# Altium integrated library NSC LDO.IntLib: 2590 symbols (part 33 of 64)
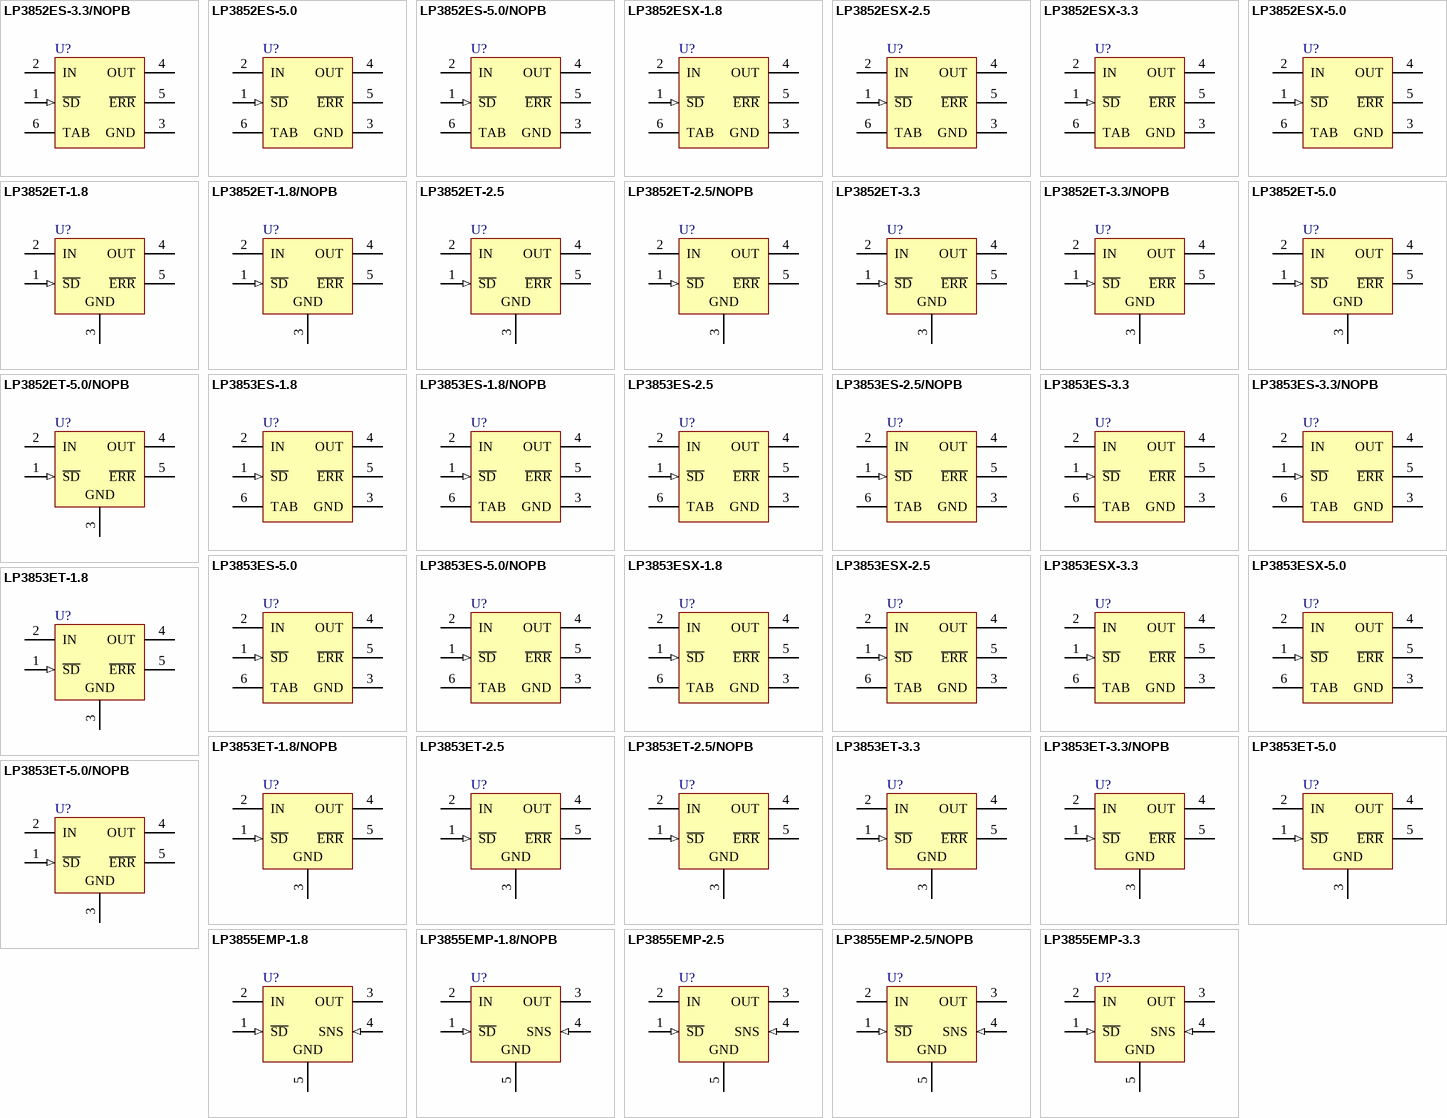
[diagram p97: symbols LP3852ES-3.3/NOPB to LP3855EMP-3.3]

## LP3853ES-2.5/NOPB
designator U?
3A Fast Ultra Low Dropout Linear Regulator, 5-pin TO-263, Pb-Free; PartNumber: LP3853ES-2.5/NOPB; Manufacturer: National Semiconductor; PackageTopMarking: NSUZXYTTE#*LP3853ES*-2.5; PowerWise: N; CompType: LDO IC; Published: 1-Mar-2010; DatasheetVersion: Sep-2006; PackageVersion: revD, Apr-2005; PackageReference: TS5B; Publisher: Altium Limited; PackageDescription: TO-263, Molded, .400 x .390 x .180in, 5 Lead, .067in Pitch, Surface Mount; Supplier 1: Digi-Key; Supplier Part Number 1: LP3853ES-2.5-ND; RoHS: Y; PinCount: 5; Code_JEDEC: MO-169-AB; ComponentLink1Description: LP3853 Datasheet; ComponentLink1URL: http://www.national.com/ds/LP/LP3853.pdf; ComponentLink2Description: LP3853 Web Page; ComponentLink2URL: http://www.national.com/pf/LP/LP3853.html; ComponentLink3Description: TS5B Package Page; ComponentLink3URL: http://www.national.com/packaging/folders/ts5b.html
footprint TS5B_N (D2-PAK, 6-Leads, Body 8.6x10.2mm, Pitch 1.7mm, Lead Span 14.1mm, IPC Medium Density)
footprint TS5B_L (D2-PAK, 6-Leads, Body 8.6x10.2mm, Pitch 1.7mm, Lead Span 14.1mm, IPC High Density)
footprint TS5B_M (D2-PAK, 6-Leads, Body 8.6x10.2mm, Pitch 1.7mm, Lead Span 14.1mm, IPC Low Density)
pins: 1 ~{SD} (in), 2 IN (power), 3 GND (power), 4 OUT (power), 5 ~{ERR} (oc), 6 TAB (power)

## LP3853ES-3.3
designator U?
3A Fast Ultra Low Dropout Linear Regulator, 5-pin TO-263; PartNumber: LP3853ES-3.3; Manufacturer: National Semiconductor; PackageTopMarking: NSUZXYTTE#*LP3853ES*-3.3; PowerWise: N; CompType: LDO IC; Published: 4-Dec-2008; DatasheetVersion: Sep-2006; PackageVersion: revD, Apr-2005; PackageReference: TS5B; Publisher: Altium Limited; PackageDescription: TO-263, Molded, .400 x .390 x .180in, 5 Lead, .067in Pitch, Surface Mount; Supplier 1: Farnell; Supplier Part Number 1: 8187975; RoHS: N; PinCount: 5; Code_JEDEC: MO-169-AB; ComponentLink1Description: LP3853 Datasheet; ComponentLink1URL: http://www.national.com/ds/LP/LP3853.pdf; ComponentLink2Description: LP3853 Web Page; ComponentLink2URL: http://www.national.com/pf/LP/LP3853.html; ComponentLink3Description: TS5B Package Page; ComponentLink3URL: http://www.national.com/packaging/folders/ts5b.html
footprint TS5B_N (D2-PAK, 6-Leads, Body 8.6x10.2mm, Pitch 1.7mm, Lead Span 14.1mm, IPC Medium Density)
footprint TS5B_L (D2-PAK, 6-Leads, Body 8.6x10.2mm, Pitch 1.7mm, Lead Span 14.1mm, IPC High Density)
footprint TS5B_M (D2-PAK, 6-Leads, Body 8.6x10.2mm, Pitch 1.7mm, Lead Span 14.1mm, IPC Low Density)
pins: 1 ~{SD} (in), 2 IN (power), 3 GND (power), 4 OUT (power), 5 ~{ERR} (oc), 6 TAB (power)

## LP3853ES-3.3/NOPB
designator U?
3A Fast Ultra Low Dropout Linear Regulator, 5-pin TO-263, Pb-Free; PartNumber: LP3853ES-3.3/NOPB; Manufacturer: National Semiconductor; PackageTopMarking: NSUZXYTTE#*LP3853ES*-3.3; PowerWise: N; CompType: LDO IC; Published: 1-Mar-2010; DatasheetVersion: Sep-2006; PackageVersion: revD, Apr-2005; PackageReference: TS5B; Publisher: Altium Limited; PackageDescription: TO-263, Molded, .400 x .390 x .180in, 5 Lead, .067in Pitch, Surface Mount; Supplier 1: Digi-Key; Supplier Part Number 1: LP3853ES-3.3-ND; Supplier 2: Farnell; Supplier Part Number 2: 1685702; RoHS: Y; PinCount: 5; Code_JEDEC: MO-169-AB; ComponentLink1Description: LP3853 Datasheet; ComponentLink1URL: http://www.national.com/ds/LP/LP3853.pdf; ComponentLink2Description: LP3853 Web Page; ComponentLink2URL: http://www.national.com/pf/LP/LP3853.html; ComponentLink3Description: TS5B Package Page; ComponentLink3URL: http://www.national.com/packaging/folders/ts5b.html
footprint TS5B_N (D2-PAK, 6-Leads, Body 8.6x10.2mm, Pitch 1.7mm, Lead Span 14.1mm, IPC Medium Density)
footprint TS5B_L (D2-PAK, 6-Leads, Body 8.6x10.2mm, Pitch 1.7mm, Lead Span 14.1mm, IPC High Density)
footprint TS5B_M (D2-PAK, 6-Leads, Body 8.6x10.2mm, Pitch 1.7mm, Lead Span 14.1mm, IPC Low Density)
pins: 1 ~{SD} (in), 2 IN (power), 3 GND (power), 4 OUT (power), 5 ~{ERR} (oc), 6 TAB (power)

## LP3853ES-5.0
designator U?
3A Fast Ultra Low Dropout Linear Regulator, 5-pin TO-263; PartNumber: LP3853ES-5.0; Manufacturer: National Semiconductor; PackageTopMarking: NSUZXYTTE#*LP3853ES*-5.0; PowerWise: N; CompType: LDO IC; Published: 4-Dec-2008; DatasheetVersion: Sep-2006; PackageVersion: revD, Apr-2005; PackageReference: TS5B; Publisher: Altium Limited; PackageDescription: TO-263, Molded, .400 x .390 x .180in, 5 Lead, .067in Pitch, Surface Mount; Supplier 1: Farnell; Supplier Part Number 1: 8187983; RoHS: N; PinCount: 5; Code_JEDEC: MO-169-AB; ComponentLink1Description: LP3853 Datasheet; ComponentLink1URL: http://www.national.com/ds/LP/LP3853.pdf; ComponentLink2Description: LP3853 Web Page; ComponentLink2URL: http://www.national.com/pf/LP/LP3853.html; ComponentLink3Description: TS5B Package Page; ComponentLink3URL: http://www.national.com/packaging/folders/ts5b.html
footprint TS5B_N (D2-PAK, 6-Leads, Body 8.6x10.2mm, Pitch 1.7mm, Lead Span 14.1mm, IPC Medium Density)
footprint TS5B_L (D2-PAK, 6-Leads, Body 8.6x10.2mm, Pitch 1.7mm, Lead Span 14.1mm, IPC High Density)
footprint TS5B_M (D2-PAK, 6-Leads, Body 8.6x10.2mm, Pitch 1.7mm, Lead Span 14.1mm, IPC Low Density)
pins: 1 ~{SD} (in), 2 IN (power), 3 GND (power), 4 OUT (power), 5 ~{ERR} (oc), 6 TAB (power)

## LP3853ES-5.0/NOPB
designator U?
3A Fast Ultra Low Dropout Linear Regulator, 5-pin TO-263, Pb-Free; PartNumber: LP3853ES-5.0/NOPB; Manufacturer: National Semiconductor; PackageTopMarking: NSUZXYTTE#*LP3853ES*-5.0; PowerWise: N; CompType: LDO IC; Published: 1-Mar-2010; DatasheetVersion: Sep-2006; PackageVersion: revD, Apr-2005; PackageReference: TS5B; Publisher: Altium Limited; PackageDescription: TO-263, Molded, .400 x .390 x .180in, 5 Lead, .067in Pitch, Surface Mount; Supplier 1: Digi-Key; Supplier Part Number 1: LP3853ES-5.0-ND; Supplier 2: Farnell; Supplier Part Number 2: 1685704; RoHS: Y; PinCount: 5; Code_JEDEC: MO-169-AB; ComponentLink1Description: LP3853 Datasheet; ComponentLink1URL: http://www.national.com/ds/LP/LP3853.pdf; ComponentLink2Description: LP3853 Web Page; ComponentLink2URL: http://www.national.com/pf/LP/LP3853.html; ComponentLink3Description: TS5B Package Page; ComponentLink3URL: http://www.national.com/packaging/folders/ts5b.html
footprint TS5B_N (D2-PAK, 6-Leads, Body 8.6x10.2mm, Pitch 1.7mm, Lead Span 14.1mm, IPC Medium Density)
footprint TS5B_L (D2-PAK, 6-Leads, Body 8.6x10.2mm, Pitch 1.7mm, Lead Span 14.1mm, IPC High Density)
footprint TS5B_M (D2-PAK, 6-Leads, Body 8.6x10.2mm, Pitch 1.7mm, Lead Span 14.1mm, IPC Low Density)
pins: 1 ~{SD} (in), 2 IN (power), 3 GND (power), 4 OUT (power), 5 ~{ERR} (oc), 6 TAB (power)

## LP3853ESX-1.8
designator U?
3A Fast Ultra Low Dropout Linear Regulator, 5-pin TO-263; PartNumber: LP3853ESX-1.8; Manufacturer: National Semiconductor; PackageTopMarking: NSUZXYTTE#*LP3853ES*-1.8; PowerWise: N; CompType: LDO IC; Published: 1-Mar-2010; DatasheetVersion: Sep-2006; PackageVersion: revD, Apr-2005; PackageReference: TS5B; Publisher: Altium Limited; PackageDescription: TO-263, Molded, .400 x .390 x .180in, 5 Lead, .067in Pitch, Surface Mount; RoHS: N; PinCount: 5; Code_JEDEC: MO-169-AB; ComponentLink1Description: LP3853 Datasheet; ComponentLink1URL: http://www.national.com/ds/LP/LP3853.pdf; ComponentLink2Description: LP3853 Web Page; ComponentLink2URL: http://www.national.com/pf/LP/LP3853.html; ComponentLink3Description: TS5B Package Page; ComponentLink3URL: http://www.national.com/packaging/folders/ts5b.html
footprint TS5B_N (D2-PAK, 6-Leads, Body 8.6x10.2mm, Pitch 1.7mm, Lead Span 14.1mm, IPC Medium Density)
footprint TS5B_L (D2-PAK, 6-Leads, Body 8.6x10.2mm, Pitch 1.7mm, Lead Span 14.1mm, IPC High Density)
footprint TS5B_M (D2-PAK, 6-Leads, Body 8.6x10.2mm, Pitch 1.7mm, Lead Span 14.1mm, IPC Low Density)
pins: 1 ~{SD} (in), 2 IN (power), 3 GND (power), 4 OUT (power), 5 ~{ERR} (oc), 6 TAB (power)

## LP3853ESX-2.5
designator U?
3A Fast Ultra Low Dropout Linear Regulator, 5-pin TO-263; PartNumber: LP3853ESX-2.5; Manufacturer: National Semiconductor; PackageTopMarking: NSUZXYTTE#*LP3853ES*-2.5; PowerWise: N; CompType: LDO IC; Published: 1-Mar-2010; DatasheetVersion: Sep-2006; PackageVersion: revD, Apr-2005; PackageReference: TS5B; Publisher: Altium Limited; PackageDescription: TO-263, Molded, .400 x .390 x .180in, 5 Lead, .067in Pitch, Surface Mount; RoHS: N; PinCount: 5; Code_JEDEC: MO-169-AB; ComponentLink1Description: LP3853 Datasheet; ComponentLink1URL: http://www.national.com/ds/LP/LP3853.pdf; ComponentLink2Description: LP3853 Web Page; ComponentLink2URL: http://www.national.com/pf/LP/LP3853.html; ComponentLink3Description: TS5B Package Page; ComponentLink3URL: http://www.national.com/packaging/folders/ts5b.html
footprint TS5B_N (D2-PAK, 6-Leads, Body 8.6x10.2mm, Pitch 1.7mm, Lead Span 14.1mm, IPC Medium Density)
footprint TS5B_L (D2-PAK, 6-Leads, Body 8.6x10.2mm, Pitch 1.7mm, Lead Span 14.1mm, IPC High Density)
footprint TS5B_M (D2-PAK, 6-Leads, Body 8.6x10.2mm, Pitch 1.7mm, Lead Span 14.1mm, IPC Low Density)
pins: 1 ~{SD} (in), 2 IN (power), 3 GND (power), 4 OUT (power), 5 ~{ERR} (oc), 6 TAB (power)

## LP3853ESX-3.3
designator U?
3A Fast Ultra Low Dropout Linear Regulator, 5-pin TO-263; PartNumber: LP3853ESX-3.3; Manufacturer: National Semiconductor; PackageTopMarking: NSUZXYTTE#*LP3853ES*-3.3; PowerWise: N; CompType: LDO IC; Published: 1-Mar-2010; DatasheetVersion: Sep-2006; PackageVersion: revD, Apr-2005; PackageReference: TS5B; Publisher: Altium Limited; PackageDescription: TO-263, Molded, .400 x .390 x .180in, 5 Lead, .067in Pitch, Surface Mount; RoHS: N; PinCount: 5; Code_JEDEC: MO-169-AB; ComponentLink1Description: LP3853 Datasheet; ComponentLink1URL: http://www.national.com/ds/LP/LP3853.pdf; ComponentLink2Description: LP3853 Web Page; ComponentLink2URL: http://www.national.com/pf/LP/LP3853.html; ComponentLink3Description: TS5B Package Page; ComponentLink3URL: http://www.national.com/packaging/folders/ts5b.html
footprint TS5B_N (D2-PAK, 6-Leads, Body 8.6x10.2mm, Pitch 1.7mm, Lead Span 14.1mm, IPC Medium Density)
footprint TS5B_L (D2-PAK, 6-Leads, Body 8.6x10.2mm, Pitch 1.7mm, Lead Span 14.1mm, IPC High Density)
footprint TS5B_M (D2-PAK, 6-Leads, Body 8.6x10.2mm, Pitch 1.7mm, Lead Span 14.1mm, IPC Low Density)
pins: 1 ~{SD} (in), 2 IN (power), 3 GND (power), 4 OUT (power), 5 ~{ERR} (oc), 6 TAB (power)

## LP3853ESX-5.0
designator U?
3A Fast Ultra Low Dropout Linear Regulator, 5-pin TO-263; PartNumber: LP3853ESX-5.0; Manufacturer: National Semiconductor; PackageTopMarking: NSUZXYTTE#*LP3853ES*-5.0; PowerWise: N; CompType: LDO IC; Published: 1-Mar-2010; DatasheetVersion: Sep-2006; PackageVersion: revD, Apr-2005; PackageReference: TS5B; Publisher: Altium Limited; PackageDescription: TO-263, Molded, .400 x .390 x .180in, 5 Lead, .067in Pitch, Surface Mount; RoHS: N; PinCount: 5; Code_JEDEC: MO-169-AB; ComponentLink1Description: LP3853 Datasheet; ComponentLink1URL: http://www.national.com/ds/LP/LP3853.pdf; ComponentLink2Description: LP3853 Web Page; ComponentLink2URL: http://www.national.com/pf/LP/LP3853.html; ComponentLink3Description: TS5B Package Page; ComponentLink3URL: http://www.national.com/packaging/folders/ts5b.html
footprint TS5B_N (D2-PAK, 6-Leads, Body 8.6x10.2mm, Pitch 1.7mm, Lead Span 14.1mm, IPC Medium Density)
footprint TS5B_L (D2-PAK, 6-Leads, Body 8.6x10.2mm, Pitch 1.7mm, Lead Span 14.1mm, IPC High Density)
footprint TS5B_M (D2-PAK, 6-Leads, Body 8.6x10.2mm, Pitch 1.7mm, Lead Span 14.1mm, IPC Low Density)
pins: 1 ~{SD} (in), 2 IN (power), 3 GND (power), 4 OUT (power), 5 ~{ERR} (oc), 6 TAB (power)

## LP3853ET-1.8
designator U?
3A Fast Ultra Low Dropout Linear Regulator, 5-pin TO-220; PartNumber: LP3853ET-1.8; Manufacturer: National Semiconductor; PackageTopMarking: NSUZXYTTE#*LP3853ET*-1.8; PowerWise: N; CompType: LDO IC; Published: 4-Dec-2008; DatasheetVersion: Sep-2006; PackageVersion: revA, Oct-1989; PackageReference: T05D; Publisher: Altium Limited; PackageDescription: TO-220, Molded, Stagger Bend, 5 Lead; Supplier 1: Farnell; Supplier Part Number 1: 8187991; RoHS: N; PinCount: 5; ComponentLink1Description: LP3853 Datasheet; ComponentLink1URL: http://www.national.com/ds/LP/LP3853.pdf; ComponentLink2Description: LP3853 Web Page; ComponentLink2URL: http://www.national.com/pf/LP/LP3853.html; ComponentLink3Description: T05D Package Page; ComponentLink3URL: http://www.national.com/packaging/folders/t05d.html
footprint T05D (TO, Thru-Hole, Vertical, Heatsink Mounted; 5 Bent Staggered Leads; Body 10.3x8.6x4.6mm, Pitch 1.7 mm)
pins: 1 ~{SD} (in), 2 IN (power), 3 GND (power), 4 OUT (power), 5 ~{ERR} (oc)

## LP3853ET-1.8/NOPB
designator U?
3A Fast Ultra Low Dropout Linear Regulator, 5-pin TO-220, Pb-Free; PartNumber: LP3853ET-1.8/NOPB; Manufacturer: National Semiconductor; PackageTopMarking: NSUZXYTTE#*LP3853ET*-1.8; PowerWise: N; CompType: LDO IC; Published: 1-Mar-2010; DatasheetVersion: Sep-2006; PackageVersion: revA, Oct-1989; PackageReference: T05D; Publisher: Altium Limited; PackageDescription: TO-220, Molded, Stagger Bend, 5 Lead; Supplier 1: Digi-Key; Supplier Part Number 1: LP3853ET-1.8-ND; RoHS: Y; PinCount: 5; ComponentLink1Description: LP3853 Datasheet; ComponentLink1URL: http://www.national.com/ds/LP/LP3853.pdf; ComponentLink2Description: LP3853 Web Page; ComponentLink2URL: http://www.national.com/pf/LP/LP3853.html; ComponentLink3Description: T05D Package Page; ComponentLink3URL: http://www.national.com/packaging/folders/t05d.html
footprint T05D (TO, Thru-Hole, Vertical, Heatsink Mounted; 5 Bent Staggered Leads; Body 10.3x8.6x4.6mm, Pitch 1.7 mm)
pins: 1 ~{SD} (in), 2 IN (power), 3 GND (power), 4 OUT (power), 5 ~{ERR} (oc)

## LP3853ET-2.5
designator U?
3A Fast Ultra Low Dropout Linear Regulator, 5-pin TO-220; PartNumber: LP3853ET-2.5; Manufacturer: National Semiconductor; PackageTopMarking: NSUZXYTTE#*LP3853ET*-2.5; PowerWise: N; CompType: LDO IC; Published: 4-Dec-2008; DatasheetVersion: Sep-2006; PackageVersion: revA, Oct-1989; PackageReference: T05D; Publisher: Altium Limited; PackageDescription: TO-220, Molded, Stagger Bend, 5 Lead; Supplier 1: Farnell; Supplier Part Number 1: 8188009; RoHS: N; PinCount: 5; ComponentLink1Description: LP3853 Datasheet; ComponentLink1URL: http://www.national.com/ds/LP/LP3853.pdf; ComponentLink2Description: LP3853 Web Page; ComponentLink2URL: http://www.national.com/pf/LP/LP3853.html; ComponentLink3Description: T05D Package Page; ComponentLink3URL: http://www.national.com/packaging/folders/t05d.html
footprint T05D (TO, Thru-Hole, Vertical, Heatsink Mounted; 5 Bent Staggered Leads; Body 10.3x8.6x4.6mm, Pitch 1.7 mm)
pins: 1 ~{SD} (in), 2 IN (power), 3 GND (power), 4 OUT (power), 5 ~{ERR} (oc)

## LP3853ET-2.5/NOPB
designator U?
3A Fast Ultra Low Dropout Linear Regulator, 5-pin TO-220, Pb-Free; PartNumber: LP3853ET-2.5/NOPB; Manufacturer: National Semiconductor; PackageTopMarking: NSUZXYTTE#*LP3853ET*-2.5; PowerWise: N; CompType: LDO IC; Published: 1-Mar-2010; DatasheetVersion: Sep-2006; PackageVersion: revA, Oct-1989; PackageReference: T05D; Publisher: Altium Limited; PackageDescription: TO-220, Molded, Stagger Bend, 5 Lead; Supplier 1: Digi-Key; Supplier Part Number 1: LP3853ET-2.5-ND; RoHS: Y; PinCount: 5; ComponentLink1Description: LP3853 Datasheet; ComponentLink1URL: http://www.national.com/ds/LP/LP3853.pdf; ComponentLink2Description: LP3853 Web Page; ComponentLink2URL: http://www.national.com/pf/LP/LP3853.html; ComponentLink3Description: T05D Package Page; ComponentLink3URL: http://www.national.com/packaging/folders/t05d.html
footprint T05D (TO, Thru-Hole, Vertical, Heatsink Mounted; 5 Bent Staggered Leads; Body 10.3x8.6x4.6mm, Pitch 1.7 mm)
pins: 1 ~{SD} (in), 2 IN (power), 3 GND (power), 4 OUT (power), 5 ~{ERR} (oc)

## LP3853ET-3.3
designator U?
3A Fast Ultra Low Dropout Linear Regulator, 5-pin TO-220; PartNumber: LP3853ET-3.3; Manufacturer: National Semiconductor; PackageTopMarking: NSUZXYTTE#*LP3853ET*-3.3; PowerWise: N; CompType: LDO IC; Published: 4-Dec-2008; DatasheetVersion: Sep-2006; PackageVersion: revA, Oct-1989; PackageReference: T05D; Publisher: Altium Limited; PackageDescription: TO-220, Molded, Stagger Bend, 5 Lead; Supplier 1: Farnell; Supplier Part Number 1: 8188017; RoHS: N; PinCount: 5; ComponentLink1Description: LP3853 Datasheet; ComponentLink1URL: http://www.national.com/ds/LP/LP3853.pdf; ComponentLink2Description: LP3853 Web Page; ComponentLink2URL: http://www.national.com/pf/LP/LP3853.html; ComponentLink3Description: T05D Package Page; ComponentLink3URL: http://www.national.com/packaging/folders/t05d.html
footprint T05D (TO, Thru-Hole, Vertical, Heatsink Mounted; 5 Bent Staggered Leads; Body 10.3x8.6x4.6mm, Pitch 1.7 mm)
pins: 1 ~{SD} (in), 2 IN (power), 3 GND (power), 4 OUT (power), 5 ~{ERR} (oc)

## LP3853ET-3.3/NOPB
designator U?
3A Fast Ultra Low Dropout Linear Regulator, 5-pin TO-220, Pb-Free; PartNumber: LP3853ET-3.3/NOPB; Manufacturer: National Semiconductor; PackageTopMarking: NSUZXYTTE#*LP3853ET*-3.3; PowerWise: N; CompType: LDO IC; Published: 1-Mar-2010; DatasheetVersion: Sep-2006; PackageVersion: revA, Oct-1989; PackageReference: T05D; Publisher: Altium Limited; PackageDescription: TO-220, Molded, Stagger Bend, 5 Lead; Supplier 1: Digi-Key; Supplier Part Number 1: LP3853ET-3.3-ND; RoHS: Y; PinCount: 5; ComponentLink1Description: LP3853 Datasheet; ComponentLink1URL: http://www.national.com/ds/LP/LP3853.pdf; ComponentLink2Description: LP3853 Web Page; ComponentLink2URL: http://www.national.com/pf/LP/LP3853.html; ComponentLink3Description: T05D Package Page; ComponentLink3URL: http://www.national.com/packaging/folders/t05d.html
footprint T05D (TO, Thru-Hole, Vertical, Heatsink Mounted; 5 Bent Staggered Leads; Body 10.3x8.6x4.6mm, Pitch 1.7 mm)
pins: 1 ~{SD} (in), 2 IN (power), 3 GND (power), 4 OUT (power), 5 ~{ERR} (oc)

## LP3853ET-5.0
designator U?
3A Fast Ultra Low Dropout Linear Regulator, 5-pin TO-220; PartNumber: LP3853ET-5.0; Manufacturer: National Semiconductor; PackageTopMarking: NSUZXYTTE#*LP3853ET*-5.0; PowerWise: N; CompType: LDO IC; Published: 4-Dec-2008; DatasheetVersion: Sep-2006; PackageVersion: revA, Oct-1989; PackageReference: T05D; Publisher: Altium Limited; PackageDescription: TO-220, Molded, Stagger Bend, 5 Lead; Supplier 1: Farnell; Supplier Part Number 1: 8188025; RoHS: N; PinCount: 5; ComponentLink1Description: LP3853 Datasheet; ComponentLink1URL: http://www.national.com/ds/LP/LP3853.pdf; ComponentLink2Description: LP3853 Web Page; ComponentLink2URL: http://www.national.com/pf/LP/LP3853.html; ComponentLink3Description: T05D Package Page; ComponentLink3URL: http://www.national.com/packaging/folders/t05d.html
footprint T05D (TO, Thru-Hole, Vertical, Heatsink Mounted; 5 Bent Staggered Leads; Body 10.3x8.6x4.6mm, Pitch 1.7 mm)
pins: 1 ~{SD} (in), 2 IN (power), 3 GND (power), 4 OUT (power), 5 ~{ERR} (oc)

## LP3853ET-5.0/NOPB
designator U?
3A Fast Ultra Low Dropout Linear Regulator, 5-pin TO-220, Pb-Free; PartNumber: LP3853ET-5.0/NOPB; Manufacturer: National Semiconductor; PackageTopMarking: NSUZXYTTE#*LP3853ET*-5.0; PowerWise: N; CompType: LDO IC; Published: 1-Mar-2010; DatasheetVersion: Sep-2006; PackageVersion: revA, Oct-1989; PackageReference: T05D; Publisher: Altium Limited; PackageDescription: TO-220, Molded, Stagger Bend, 5 Lead; Supplier 1: Digi-Key; Supplier Part Number 1: LP3853ET-5.0-ND; RoHS: Y; PinCount: 5; ComponentLink1Description: LP3853 Datasheet; ComponentLink1URL: http://www.national.com/ds/LP/LP3853.pdf; ComponentLink2Description: LP3853 Web Page; ComponentLink2URL: http://www.national.com/pf/LP/LP3853.html; ComponentLink3Description: T05D Package Page; ComponentLink3URL: http://www.national.com/packaging/folders/t05d.html
footprint T05D (TO, Thru-Hole, Vertical, Heatsink Mounted; 5 Bent Staggered Leads; Body 10.3x8.6x4.6mm, Pitch 1.7 mm)
pins: 1 ~{SD} (in), 2 IN (power), 3 GND (power), 4 OUT (power), 5 ~{ERR} (oc)

## LP3855EMP-1.8
designator U?
1.5A Fast Ultra Low Dropout Linear Regulator, 5-pin SOT-223; PartNumber: LP3855EMP-1.8; Manufacturer: National Semiconductor; PackageTopMarking: XYTT*LHYB; PowerWise: N; CompType: LDO IC; Published: 4-Dec-2008; DatasheetVersion: Sep-2006; PackageVersion: revA, Jan-2000; PackageReference: MP05A; Publisher: Altium Limited; PackageDescription: Moldec SOT-223, 6.50 x 3.56 x 1.6mm Body, 5 Lead, 1.5mm Pitch; Supplier 1: Farnell; Supplier Part Number 1: 8188033; RoHS: N; PinCount: 5; Code_JEDEC: TO-261-AB; Code_IPC: SOT223-5; ComponentLink1Description: LP3855 Datasheet; ComponentLink1URL: http://www.national.com/ds/LP/LP3855.pdf; ComponentLink2Description: LP3855 Web Page; ComponentLink2URL: http://www.national.com/pf/LP/LP3855.html; ComponentLink3Description: MP05A Package Page; ComponentLink3URL: http://www.national.com/packaging/folders/mp05a.html
footprint MP05A_N (SOT223, 5-Leads, Body 6.5x3.5mm, Pitch 1.5mm, Lead Span 7mm, IPC Medium Density)
footprint MP05A_L (SOT223, 5-Leads, Body 6.5x3.5mm, Pitch 1.5mm, Lead Span 7mm, IPC High Density)
footprint MP05A_M (SOT223, 5-Leads, Body 6.5x3.5mm, Pitch 1.5mm, Lead Span 7mm, IPC Low Density)
pins: 1 ~{SD} (in), 2 IN (power), 3 OUT (power), 4 SNS (in), 5 GND (power)

## LP3855EMP-1.8/NOPB
designator U?
1.5A Fast Ultra Low Dropout Linear Regulator, 5-pin SOT-223, Pb-Free; PartNumber: LP3855EMP-1.8/NOPB; Manufacturer: National Semiconductor; PackageTopMarking: XYTT*LHYB; PowerWise: N; CompType: LDO IC; Published: 1-Mar-2010; DatasheetVersion: Sep-2006; PackageVersion: revA, Jan-2000; PackageReference: MP05A; Publisher: Altium Limited; PackageDescription: Moldec SOT-223, 6.50 x 3.56 x 1.6mm Body, 5 Lead, 1.5mm Pitch; Supplier 1: Digi-Key; Supplier Part Number 1: LP3855EMP-1.8TR-ND; Supplier 2: Digi-Key; Supplier Part Number 2: LP3855EMP-1.8CT-ND; Supplier 3: Digi-Key; Supplier Part Number 3: LP3855EMP-1.8DKR-ND; RoHS: Y; PinCount: 5; Code_JEDEC: TO-261-AB; Code_IPC: SOT223-5; ComponentLink1Description: LP3855 Datasheet; ComponentLink1URL: http://www.national.com/ds/LP/LP3855.pdf; ComponentLink2Description: LP3855 Web Page; ComponentLink2URL: http://www.national.com/pf/LP/LP3855.html; ComponentLink3Description: MP05A Package Page; ComponentLink3URL: http://www.national.com/packaging/folders/mp05a.html
footprint MP05A_N (SOT223, 5-Leads, Body 6.5x3.5mm, Pitch 1.5mm, Lead Span 7mm, IPC Medium Density)
footprint MP05A_L (SOT223, 5-Leads, Body 6.5x3.5mm, Pitch 1.5mm, Lead Span 7mm, IPC High Density)
footprint MP05A_M (SOT223, 5-Leads, Body 6.5x3.5mm, Pitch 1.5mm, Lead Span 7mm, IPC Low Density)
pins: 1 ~{SD} (in), 2 IN (power), 3 OUT (power), 4 SNS (in), 5 GND (power)

## LP3855EMP-2.5
designator U?
1.5A Fast Ultra Low Dropout Linear Regulator, 5-pin SOT-223; PartNumber: LP3855EMP-2.5; Manufacturer: National Semiconductor; PackageTopMarking: XYTT*LHZB; PowerWise: N; CompType: LDO IC; Published: 4-Dec-2008; DatasheetVersion: Sep-2006; PackageVersion: revA, Jan-2000; PackageReference: MP05A; Publisher: Altium Limited; PackageDescription: Moldec SOT-223, 6.50 x 3.56 x 1.6mm Body, 5 Lead, 1.5mm Pitch; Supplier 1: Farnell; Supplier Part Number 1: 8188041; RoHS: N; PinCount: 5; Code_JEDEC: TO-261-AB; Code_IPC: SOT223-5; ComponentLink1Description: LP3855 Datasheet; ComponentLink1URL: http://www.national.com/ds/LP/LP3855.pdf; ComponentLink2Description: LP3855 Web Page; ComponentLink2URL: http://www.national.com/pf/LP/LP3855.html; ComponentLink3Description: MP05A Package Page; ComponentLink3URL: http://www.national.com/packaging/folders/mp05a.html
footprint MP05A_N (SOT223, 5-Leads, Body 6.5x3.5mm, Pitch 1.5mm, Lead Span 7mm, IPC Medium Density)
footprint MP05A_L (SOT223, 5-Leads, Body 6.5x3.5mm, Pitch 1.5mm, Lead Span 7mm, IPC High Density)
footprint MP05A_M (SOT223, 5-Leads, Body 6.5x3.5mm, Pitch 1.5mm, Lead Span 7mm, IPC Low Density)
pins: 1 ~{SD} (in), 2 IN (power), 3 OUT (power), 4 SNS (in), 5 GND (power)

## LP3855EMP-2.5/NOPB
designator U?
1.5A Fast Ultra Low Dropout Linear Regulator, 5-pin SOT-223, Pb-Free; PartNumber: LP3855EMP-2.5/NOPB; Manufacturer: National Semiconductor; PackageTopMarking: XYTT*LHZB; PowerWise: N; CompType: LDO IC; Published: 1-Mar-2010; DatasheetVersion: Sep-2006; PackageVersion: revA, Jan-2000; PackageReference: MP05A; Publisher: Altium Limited; PackageDescription: Moldec SOT-223, 6.50 x 3.56 x 1.6mm Body, 5 Lead, 1.5mm Pitch; Supplier 1: Digi-Key; Supplier Part Number 1: LP3855EMP-2.5TR-ND; Supplier 2: Digi-Key; Supplier Part Number 2: LP3855EMP-2.5CT-ND; Supplier 3: Digi-Key; Supplier Part Number 3: LP3855EMP-2.5DKR-ND; Supplier 4: Farnell; Supplier Part Number 4: 1685705; RoHS: Y; PinCount: 5; Code_JEDEC: TO-261-AB; Code_IPC: SOT223-5; ComponentLink1Description: LP3855 Datasheet; ComponentLink1URL: http://www.national.com/ds/LP/LP3855.pdf; ComponentLink2Description: LP3855 Web Page; ComponentLink2URL: http://www.national.com/pf/LP/LP3855.html; ComponentLink3Description: MP05A Package Page; ComponentLink3URL: http://www.national.com/packaging/folders/mp05a.html
footprint MP05A_N (SOT223, 5-Leads, Body 6.5x3.5mm, Pitch 1.5mm, Lead Span 7mm, IPC Medium Density)
footprint MP05A_L (SOT223, 5-Leads, Body 6.5x3.5mm, Pitch 1.5mm, Lead Span 7mm, IPC High Density)
footprint MP05A_M (SOT223, 5-Leads, Body 6.5x3.5mm, Pitch 1.5mm, Lead Span 7mm, IPC Low Density)
pins: 1 ~{SD} (in), 2 IN (power), 3 OUT (power), 4 SNS (in), 5 GND (power)

## LP3855EMP-3.3
designator U?
1.5A Fast Ultra Low Dropout Linear Regulator, 5-pin SOT-223; PartNumber: LP3855EMP-3.3; Manufacturer: National Semiconductor; PackageTopMarking: XYTT*LJ1B; PowerWise: N; CompType: LDO IC; Published: 4-Dec-2008; DatasheetVersion: Sep-2006; PackageVersion: revA, Jan-2000; PackageReference: MP05A; Publisher: Altium Limited; PackageDescription: Moldec SOT-223, 6.50 x 3.56 x 1.6mm Body, 5 Lead, 1.5mm Pitch; Supplier 1: Farnell; Supplier Part Number 1: 1008284; RoHS: N; PinCount: 5; Code_JEDEC: TO-261-AB; Code_IPC: SOT223-5; ComponentLink1Description: LP3855 Datasheet; ComponentLink1URL: http://www.national.com/ds/LP/LP3855.pdf; ComponentLink2Description: LP3855 Web Page; ComponentLink2URL: http://www.national.com/pf/LP/LP3855.html; ComponentLink3Description: MP05A Package Page; ComponentLink3URL: http://www.national.com/packaging/folders/mp05a.html
footprint MP05A_N (SOT223, 5-Leads, Body 6.5x3.5mm, Pitch 1.5mm, Lead Span 7mm, IPC Medium Density)
footprint MP05A_L (SOT223, 5-Leads, Body 6.5x3.5mm, Pitch 1.5mm, Lead Span 7mm, IPC High Density)
footprint MP05A_M (SOT223, 5-Leads, Body 6.5x3.5mm, Pitch 1.5mm, Lead Span 7mm, IPC Low Density)
pins: 1 ~{SD} (in), 2 IN (power), 3 OUT (power), 4 SNS (in), 5 GND (power)

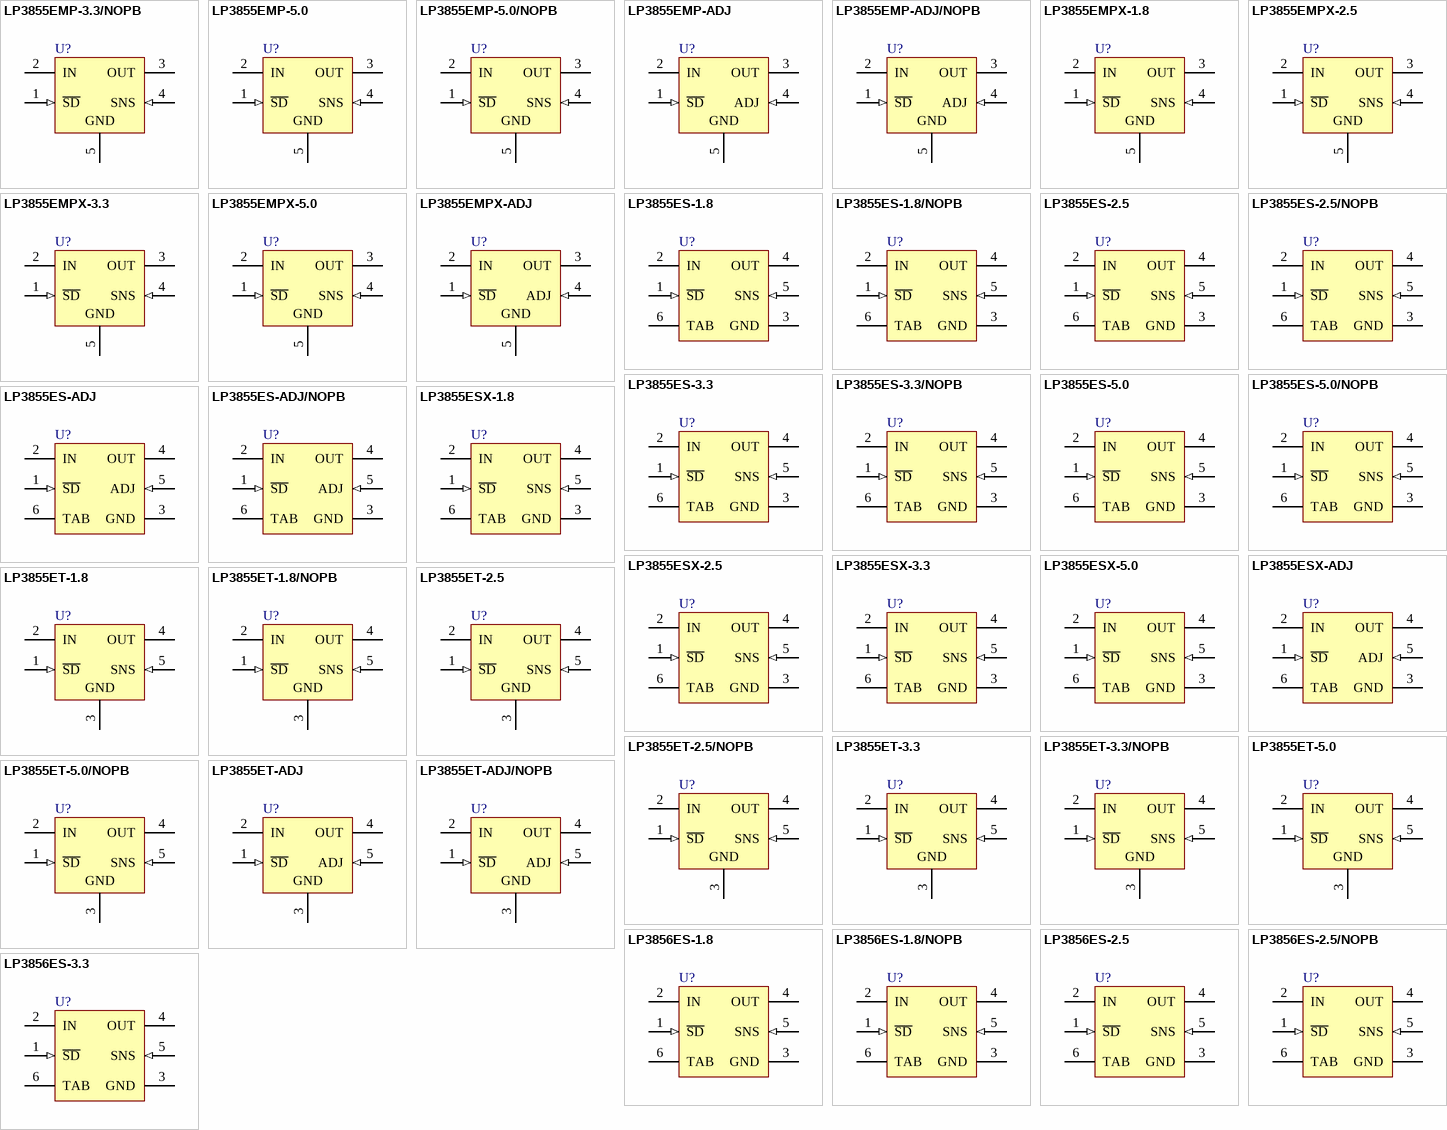
[diagram p34: symbols LP3855EMP-3.3/NOPB to LP3856ES-3.3]

## LP3855EMP-3.3/NOPB
designator U?
1.5A Fast Ultra Low Dropout Linear Regulator, 5-pin SOT-223, Pb-Free; PartNumber: LP3855EMP-3.3/NOPB; Manufacturer: National Semiconductor; PackageTopMarking: XYTT*LJ1B; PowerWise: N; CompType: LDO IC; Published: 1-Mar-2010; DatasheetVersion: Sep-2006; PackageVersion: revA, Jan-2000; PackageReference: MP05A; Publisher: Altium Limited; PackageDescription: Moldec SOT-223, 6.50 x 3.56 x 1.6mm Body, 5 Lead, 1.5mm Pitch; Supplier 1: Digi-Key; Supplier Part Number 1: LP3855EMP-3.3TR-ND; Supplier 2: Digi-Key; Supplier Part Number 2: LP3855EMP-3.3CT-ND; Supplier 3: Digi-Key; Supplier Part Number 3: LP3855EMP-3.3DKR-ND; Supplier 4: Farnell; Supplier Part Number 4: 1559615; RoHS: Y; PinCount: 5; Code_JEDEC: TO-261-AB; Code_IPC: SOT223-5; ComponentLink1Description: LP3855 Datasheet; ComponentLink1URL: http://www.national.com/ds/LP/LP3855.pdf; ComponentLink2Description: LP3855 Web Page; ComponentLink2URL: http://www.national.com/pf/LP/LP3855.html; ComponentLink3Description: MP05A Package Page; ComponentLink3URL: http://www.national.com/packaging/folders/mp05a.html
footprint MP05A_N (SOT223, 5-Leads, Body 6.5x3.5mm, Pitch 1.5mm, Lead Span 7mm, IPC Medium Density)
footprint MP05A_L (SOT223, 5-Leads, Body 6.5x3.5mm, Pitch 1.5mm, Lead Span 7mm, IPC High Density)
footprint MP05A_M (SOT223, 5-Leads, Body 6.5x3.5mm, Pitch 1.5mm, Lead Span 7mm, IPC Low Density)
pins: 1 ~{SD} (in), 2 IN (power), 3 OUT (power), 4 SNS (in), 5 GND (power)

## LP3855EMP-5.0
designator U?
1.5A Fast Ultra Low Dropout Linear Regulator, 5-pin SOT-223; PartNumber: LP3855EMP-5.0; Manufacturer: National Semiconductor; PackageTopMarking: XYTT*LJ2B; PowerWise: N; CompType: LDO IC; Published: 4-Dec-2008; DatasheetVersion: Sep-2006; PackageVersion: revA, Jan-2000; PackageReference: MP05A; Publisher: Altium Limited; PackageDescription: Moldec SOT-223, 6.50 x 3.56 x 1.6mm Body, 5 Lead, 1.5mm Pitch; Supplier 1: Farnell; Supplier Part Number 1: 8188050; RoHS: N; PinCount: 5; Code_JEDEC: TO-261-AB; Code_IPC: SOT223-5; ComponentLink1Description: LP3855 Datasheet; ComponentLink1URL: http://www.national.com/ds/LP/LP3855.pdf; ComponentLink2Description: LP3855 Web Page; ComponentLink2URL: http://www.national.com/pf/LP/LP3855.html; ComponentLink3Description: MP05A Package Page; ComponentLink3URL: http://www.national.com/packaging/folders/mp05a.html
footprint MP05A_N (SOT223, 5-Leads, Body 6.5x3.5mm, Pitch 1.5mm, Lead Span 7mm, IPC Medium Density)
footprint MP05A_L (SOT223, 5-Leads, Body 6.5x3.5mm, Pitch 1.5mm, Lead Span 7mm, IPC High Density)
footprint MP05A_M (SOT223, 5-Leads, Body 6.5x3.5mm, Pitch 1.5mm, Lead Span 7mm, IPC Low Density)
pins: 1 ~{SD} (in), 2 IN (power), 3 OUT (power), 4 SNS (in), 5 GND (power)

## LP3855EMP-5.0/NOPB
designator U?
1.5A Fast Ultra Low Dropout Linear Regulator, 5-pin SOT-223, Pb-Free; PartNumber: LP3855EMP-5.0/NOPB; Manufacturer: National Semiconductor; PackageTopMarking: XYTT*LJ2B; PowerWise: N; CompType: LDO IC; Published: 1-Mar-2010; DatasheetVersion: Sep-2006; PackageVersion: revA, Jan-2000; PackageReference: MP05A; Publisher: Altium Limited; PackageDescription: Moldec SOT-223, 6.50 x 3.56 x 1.6mm Body, 5 Lead, 1.5mm Pitch; Supplier 1: Digi-Key; Supplier Part Number 1: LP3855EMP-5.0TR-ND; Supplier 2: Digi-Key; Supplier Part Number 2: LP3855EMP-5.0CT-ND; Supplier 3: Digi-Key; Supplier Part Number 3: LP3855EMP-5.0DKR-ND; RoHS: Y; PinCount: 5; Code_JEDEC: TO-261-AB; Code_IPC: SOT223-5; ComponentLink1Description: LP3855 Datasheet; ComponentLink1URL: http://www.national.com/ds/LP/LP3855.pdf; ComponentLink2Description: LP3855 Web Page; ComponentLink2URL: http://www.national.com/pf/LP/LP3855.html; ComponentLink3Description: MP05A Package Page; ComponentLink3URL: http://www.national.com/packaging/folders/mp05a.html
footprint MP05A_N (SOT223, 5-Leads, Body 6.5x3.5mm, Pitch 1.5mm, Lead Span 7mm, IPC Medium Density)
footprint MP05A_L (SOT223, 5-Leads, Body 6.5x3.5mm, Pitch 1.5mm, Lead Span 7mm, IPC High Density)
footprint MP05A_M (SOT223, 5-Leads, Body 6.5x3.5mm, Pitch 1.5mm, Lead Span 7mm, IPC Low Density)
pins: 1 ~{SD} (in), 2 IN (power), 3 OUT (power), 4 SNS (in), 5 GND (power)

## LP3855EMP-ADJ
designator U?
1.5A Fast Ultra Low Dropout Linear Regulator, 5-pin SOT-223; PartNumber: LP3855EMP-ADJ; Manufacturer: National Semiconductor; PackageTopMarking: XYTT*LJ3B; PowerWise: N; CompType: LDO IC; Published: 4-Dec-2008; DatasheetVersion: Sep-2008; PackageVersion: revA, Jan-2000; PackageReference: MP05A; Publisher: Altium Limited; PackageDescription: Moldec SOT-223, 6.50 x 3.56 x 1.6mm Body, 5 Lead, 1.5mm Pitch; Supplier 1: Farnell; Supplier Part Number 1: 8188769; RoHS: N; PinCount: 5; Code_JEDEC: TO-261-AB; Code_IPC: SOT223-5; ComponentLink1Description: LP3855 Datasheet; ComponentLink1URL: http://www.national.com/ds/LP/LP3855-ADJ.pdf; ComponentLink2Description: LP3855 Web Page; ComponentLink2URL: http://www.national.com/pf/LP/LP3855.html; ComponentLink3Description: MP05A Package Page; ComponentLink3URL: http://www.national.com/packaging/folders/mp05a.html
footprint MP05A_N (SOT223, 5-Leads, Body 6.5x3.5mm, Pitch 1.5mm, Lead Span 7mm, IPC Medium Density)
footprint MP05A_L (SOT223, 5-Leads, Body 6.5x3.5mm, Pitch 1.5mm, Lead Span 7mm, IPC High Density)
footprint MP05A_M (SOT223, 5-Leads, Body 6.5x3.5mm, Pitch 1.5mm, Lead Span 7mm, IPC Low Density)
pins: 1 ~{SD} (in), 2 IN (power), 3 OUT (power), 4 ADJ (in), 5 GND (power)

## LP3855EMP-ADJ/NOPB
designator U?
1.5A Fast Ultra Low Dropout Linear Regulator, 5-pin SOT-223, Pb-Free; PartNumber: LP3855EMP-ADJ/NOPB; Manufacturer: National Semiconductor; PackageTopMarking: XYTT*LJ3B; PowerWise: N; CompType: LDO IC; Published: 1-Mar-2010; DatasheetVersion: Sep-2008; PackageVersion: revA, Jan-2000; PackageReference: MP05A; Publisher: Altium Limited; PackageDescription: Moldec SOT-223, 6.50 x 3.56 x 1.6mm Body, 5 Lead, 1.5mm Pitch; Supplier 1: Digi-Key; Supplier Part Number 1: LP3855EMP-ADJTR-ND; Supplier 2: Digi-Key; Supplier Part Number 2: LP3855EMP-ADJCT-ND; Supplier 3: Digi-Key; Supplier Part Number 3: LP3855EMP-ADJDKR-ND; Supplier 4: Farnell; Supplier Part Number 4: 1559613; RoHS: Y; PinCount: 5; Code_JEDEC: TO-261-AB; Code_IPC: SOT223-5; ComponentLink1Description: LP3855 Datasheet; ComponentLink1URL: http://www.national.com/ds/LP/LP3855-ADJ.pdf; ComponentLink2Description: LP3855 Web Page; ComponentLink2URL: http://www.national.com/pf/LP/LP3855.html; ComponentLink3Description: MP05A Package Page; ComponentLink3URL: http://www.national.com/packaging/folders/mp05a.html
footprint MP05A_N (SOT223, 5-Leads, Body 6.5x3.5mm, Pitch 1.5mm, Lead Span 7mm, IPC Medium Density)
footprint MP05A_L (SOT223, 5-Leads, Body 6.5x3.5mm, Pitch 1.5mm, Lead Span 7mm, IPC High Density)
footprint MP05A_M (SOT223, 5-Leads, Body 6.5x3.5mm, Pitch 1.5mm, Lead Span 7mm, IPC Low Density)
pins: 1 ~{SD} (in), 2 IN (power), 3 OUT (power), 4 ADJ (in), 5 GND (power)

## LP3855EMPX-1.8
designator U?
1.5A Fast Ultra Low Dropout Linear Regulator, 5-pin SOT-223; PartNumber: LP3855EMPX-1.8; Manufacturer: National Semiconductor; PackageTopMarking: XYTT*LHYB; PowerWise: N; CompType: LDO IC; Published: 1-Mar-2010; DatasheetVersion: Sep-2006; PackageVersion: revA, Jan-2000; PackageReference: MP05A; Publisher: Altium Limited; PackageDescription: Moldec SOT-223, 6.50 x 3.56 x 1.6mm Body, 5 Lead, 1.5mm Pitch; RoHS: N; PinCount: 5; Code_JEDEC: TO-261-AB; Code_IPC: SOT223-5; ComponentLink1Description: LP3855 Datasheet; ComponentLink1URL: http://www.national.com/ds/LP/LP3855.pdf; ComponentLink2Description: LP3855 Web Page; ComponentLink2URL: http://www.national.com/pf/LP/LP3855.html; ComponentLink3Description: MP05A Package Page; ComponentLink3URL: http://www.national.com/packaging/folders/mp05a.html
footprint MP05A_N (SOT223, 5-Leads, Body 6.5x3.5mm, Pitch 1.5mm, Lead Span 7mm, IPC Medium Density)
footprint MP05A_L (SOT223, 5-Leads, Body 6.5x3.5mm, Pitch 1.5mm, Lead Span 7mm, IPC High Density)
footprint MP05A_M (SOT223, 5-Leads, Body 6.5x3.5mm, Pitch 1.5mm, Lead Span 7mm, IPC Low Density)
pins: 1 ~{SD} (in), 2 IN (power), 3 OUT (power), 4 SNS (in), 5 GND (power)

## LP3855EMPX-2.5
designator U?
1.5A Fast Ultra Low Dropout Linear Regulator, 5-pin SOT-223; PartNumber: LP3855EMPX-2.5; Manufacturer: National Semiconductor; PackageTopMarking: XYTT*LHZB; PowerWise: N; CompType: LDO IC; Published: 1-Mar-2010; DatasheetVersion: Sep-2006; PackageVersion: revA, Jan-2000; PackageReference: MP05A; Publisher: Altium Limited; PackageDescription: Moldec SOT-223, 6.50 x 3.56 x 1.6mm Body, 5 Lead, 1.5mm Pitch; RoHS: N; PinCount: 5; Code_JEDEC: TO-261-AB; Code_IPC: SOT223-5; ComponentLink1Description: LP3855 Datasheet; ComponentLink1URL: http://www.national.com/ds/LP/LP3855.pdf; ComponentLink2Description: LP3855 Web Page; ComponentLink2URL: http://www.national.com/pf/LP/LP3855.html; ComponentLink3Description: MP05A Package Page; ComponentLink3URL: http://www.national.com/packaging/folders/mp05a.html
footprint MP05A_N (SOT223, 5-Leads, Body 6.5x3.5mm, Pitch 1.5mm, Lead Span 7mm, IPC Medium Density)
footprint MP05A_L (SOT223, 5-Leads, Body 6.5x3.5mm, Pitch 1.5mm, Lead Span 7mm, IPC High Density)
footprint MP05A_M (SOT223, 5-Leads, Body 6.5x3.5mm, Pitch 1.5mm, Lead Span 7mm, IPC Low Density)
pins: 1 ~{SD} (in), 2 IN (power), 3 OUT (power), 4 SNS (in), 5 GND (power)

## LP3855EMPX-3.3
designator U?
1.5A Fast Ultra Low Dropout Linear Regulator, 5-pin SOT-223; PartNumber: LP3855EMPX-3.3; Manufacturer: National Semiconductor; PackageTopMarking: XYTT*LJ1B; PowerWise: N; CompType: LDO IC; Published: 1-Mar-2010; DatasheetVersion: Sep-2006; PackageVersion: revA, Jan-2000; PackageReference: MP05A; Publisher: Altium Limited; PackageDescription: Moldec SOT-223, 6.50 x 3.56 x 1.6mm Body, 5 Lead, 1.5mm Pitch; Supplier 1: Farnell; Supplier Part Number 1: 8238960; RoHS: N; PinCount: 5; Code_JEDEC: TO-261-AB; Code_IPC: SOT223-5; ComponentLink1Description: LP3855 Datasheet; ComponentLink1URL: http://www.national.com/ds/LP/LP3855.pdf; ComponentLink2Description: LP3855 Web Page; ComponentLink2URL: http://www.national.com/pf/LP/LP3855.html; ComponentLink3Description: MP05A Package Page; ComponentLink3URL: http://www.national.com/packaging/folders/mp05a.html
footprint MP05A_N (SOT223, 5-Leads, Body 6.5x3.5mm, Pitch 1.5mm, Lead Span 7mm, IPC Medium Density)
footprint MP05A_L (SOT223, 5-Leads, Body 6.5x3.5mm, Pitch 1.5mm, Lead Span 7mm, IPC High Density)
footprint MP05A_M (SOT223, 5-Leads, Body 6.5x3.5mm, Pitch 1.5mm, Lead Span 7mm, IPC Low Density)
pins: 1 ~{SD} (in), 2 IN (power), 3 OUT (power), 4 SNS (in), 5 GND (power)

## LP3855EMPX-5.0
designator U?
1.5A Fast Ultra Low Dropout Linear Regulator, 5-pin SOT-223; PartNumber: LP3855EMPX-5.0; Manufacturer: National Semiconductor; PackageTopMarking: XYTT*LJ2B; PowerWise: N; CompType: LDO IC; Published: 1-Mar-2010; DatasheetVersion: Sep-2006; PackageVersion: revA, Jan-2000; PackageReference: MP05A; Publisher: Altium Limited; PackageDescription: Moldec SOT-223, 6.50 x 3.56 x 1.6mm Body, 5 Lead, 1.5mm Pitch; RoHS: N; PinCount: 5; Code_JEDEC: TO-261-AB; Code_IPC: SOT223-5; ComponentLink1Description: LP3855 Datasheet; ComponentLink1URL: http://www.national.com/ds/LP/LP3855.pdf; ComponentLink2Description: LP3855 Web Page; ComponentLink2URL: http://www.national.com/pf/LP/LP3855.html; ComponentLink3Description: MP05A Package Page; ComponentLink3URL: http://www.national.com/packaging/folders/mp05a.html
footprint MP05A_N (SOT223, 5-Leads, Body 6.5x3.5mm, Pitch 1.5mm, Lead Span 7mm, IPC Medium Density)
footprint MP05A_L (SOT223, 5-Leads, Body 6.5x3.5mm, Pitch 1.5mm, Lead Span 7mm, IPC High Density)
footprint MP05A_M (SOT223, 5-Leads, Body 6.5x3.5mm, Pitch 1.5mm, Lead Span 7mm, IPC Low Density)
pins: 1 ~{SD} (in), 2 IN (power), 3 OUT (power), 4 SNS (in), 5 GND (power)

## LP3855EMPX-ADJ
designator U?
1.5A Fast Ultra Low Dropout Linear Regulator, 5-pin SOT-223; PartNumber: LP3855EMPX-ADJ; Manufacturer: National Semiconductor; PackageTopMarking: XYTT*LJ3B; PowerWise: N; CompType: LDO IC; Published: 1-Mar-2010; DatasheetVersion: Sep-2008; PackageVersion: revA, Jan-2000; PackageReference: MP05A; Publisher: Altium Limited; PackageDescription: Moldec SOT-223, 6.50 x 3.56 x 1.6mm Body, 5 Lead, 1.5mm Pitch; RoHS: N; PinCount: 5; Code_JEDEC: TO-261-AB; Code_IPC: SOT223-5; ComponentLink1Description: LP3855 Datasheet; ComponentLink1URL: http://www.national.com/ds/LP/LP3855-ADJ.pdf; ComponentLink2Description: LP3855 Web Page; ComponentLink2URL: http://www.national.com/pf/LP/LP3855.html; ComponentLink3Description: MP05A Package Page; ComponentLink3URL: http://www.national.com/packaging/folders/mp05a.html
footprint MP05A_N (SOT223, 5-Leads, Body 6.5x3.5mm, Pitch 1.5mm, Lead Span 7mm, IPC Medium Density)
footprint MP05A_L (SOT223, 5-Leads, Body 6.5x3.5mm, Pitch 1.5mm, Lead Span 7mm, IPC High Density)
footprint MP05A_M (SOT223, 5-Leads, Body 6.5x3.5mm, Pitch 1.5mm, Lead Span 7mm, IPC Low Density)
pins: 1 ~{SD} (in), 2 IN (power), 3 OUT (power), 4 ADJ (in), 5 GND (power)

## LP3855ES-1.8
designator U?
1.5A Fast Ultra Low Dropout Linear Regulator, 5-pin TO-263; PartNumber: LP3855ES-1.8; Manufacturer: National Semiconductor; PackageTopMarking: NSUZXYTTE#*LP3855ES*-1.8; PowerWise: N; CompType: LDO IC; Published: 4-Dec-2008; DatasheetVersion: Sep-2006; PackageVersion: revD, Apr-2005; PackageReference: TS5B; Publisher: Altium Limited; PackageDescription: TO-263, Molded, .400 x .390 x .180in, 5 Lead, .067in Pitch, Surface Mount; Supplier 1: Farnell; Supplier Part Number 1: 8188068; RoHS: N; PinCount: 5; Code_JEDEC: MO-169-AB; ComponentLink1Description: LP3855 Datasheet; ComponentLink1URL: http://www.national.com/ds/LP/LP3855.pdf; ComponentLink2Description: LP3855 Web Page; ComponentLink2URL: http://www.national.com/pf/LP/LP3855.html; ComponentLink3Description: TS5B Package Page; ComponentLink3URL: http://www.national.com/packaging/folders/ts5b.html
footprint TS5B_N (D2-PAK, 6-Leads, Body 8.6x10.2mm, Pitch 1.7mm, Lead Span 14.1mm, IPC Medium Density)
footprint TS5B_L (D2-PAK, 6-Leads, Body 8.6x10.2mm, Pitch 1.7mm, Lead Span 14.1mm, IPC High Density)
footprint TS5B_M (D2-PAK, 6-Leads, Body 8.6x10.2mm, Pitch 1.7mm, Lead Span 14.1mm, IPC Low Density)
pins: 1 ~{SD} (in), 2 IN (power), 3 GND (power), 4 OUT (power), 5 SNS (in), 6 TAB (power)

## LP3855ES-1.8/NOPB
designator U?
1.5A Fast Ultra Low Dropout Linear Regulator, 5-pin TO-263, Pb-Free; PartNumber: LP3855ES-1.8/NOPB; Manufacturer: National Semiconductor; PackageTopMarking: NSUZXYTTE#*LP3855ES*-1.8; PowerWise: N; CompType: LDO IC; Published: 1-Mar-2010; DatasheetVersion: Sep-2006; PackageVersion: revD, Apr-2005; PackageReference: TS5B; Publisher: Altium Limited; PackageDescription: TO-263, Molded, .400 x .390 x .180in, 5 Lead, .067in Pitch, Surface Mount; Supplier 1: Digi-Key; Supplier Part Number 1: LP3855ES-1.8-ND; RoHS: Y; PinCount: 5; Code_JEDEC: MO-169-AB; ComponentLink1Description: LP3855 Datasheet; ComponentLink1URL: http://www.national.com/ds/LP/LP3855.pdf; ComponentLink2Description: LP3855 Web Page; ComponentLink2URL: http://www.national.com/pf/LP/LP3855.html; ComponentLink3Description: TS5B Package Page; ComponentLink3URL: http://www.national.com/packaging/folders/ts5b.html
footprint TS5B_N (D2-PAK, 6-Leads, Body 8.6x10.2mm, Pitch 1.7mm, Lead Span 14.1mm, IPC Medium Density)
footprint TS5B_L (D2-PAK, 6-Leads, Body 8.6x10.2mm, Pitch 1.7mm, Lead Span 14.1mm, IPC High Density)
footprint TS5B_M (D2-PAK, 6-Leads, Body 8.6x10.2mm, Pitch 1.7mm, Lead Span 14.1mm, IPC Low Density)
pins: 1 ~{SD} (in), 2 IN (power), 3 GND (power), 4 OUT (power), 5 SNS (in), 6 TAB (power)

## LP3855ES-2.5
designator U?
1.5A Fast Ultra Low Dropout Linear Regulator, 5-pin TO-263; PartNumber: LP3855ES-2.5; Manufacturer: National Semiconductor; PackageTopMarking: NSUZXYTTE#*LP3855ES*-2.5; PowerWise: N; CompType: LDO IC; Published: 4-Dec-2008; DatasheetVersion: Sep-2006; PackageVersion: revD, Apr-2005; PackageReference: TS5B; Publisher: Altium Limited; PackageDescription: TO-263, Molded, .400 x .390 x .180in, 5 Lead, .067in Pitch, Surface Mount; Supplier 1: Farnell; Supplier Part Number 1: 8188076; RoHS: N; PinCount: 5; Code_JEDEC: MO-169-AB; ComponentLink1Description: LP3855 Datasheet; ComponentLink1URL: http://www.national.com/ds/LP/LP3855.pdf; ComponentLink2Description: LP3855 Web Page; ComponentLink2URL: http://www.national.com/pf/LP/LP3855.html; ComponentLink3Description: TS5B Package Page; ComponentLink3URL: http://www.national.com/packaging/folders/ts5b.html
footprint TS5B_N (D2-PAK, 6-Leads, Body 8.6x10.2mm, Pitch 1.7mm, Lead Span 14.1mm, IPC Medium Density)
footprint TS5B_L (D2-PAK, 6-Leads, Body 8.6x10.2mm, Pitch 1.7mm, Lead Span 14.1mm, IPC High Density)
footprint TS5B_M (D2-PAK, 6-Leads, Body 8.6x10.2mm, Pitch 1.7mm, Lead Span 14.1mm, IPC Low Density)
pins: 1 ~{SD} (in), 2 IN (power), 3 GND (power), 4 OUT (power), 5 SNS (in), 6 TAB (power)

## LP3855ES-2.5/NOPB
designator U?
1.5A Fast Ultra Low Dropout Linear Regulator, 5-pin TO-263, Pb-Free; PartNumber: LP3855ES-2.5/NOPB; Manufacturer: National Semiconductor; PackageTopMarking: NSUZXYTTE#*LP3855ES*-2.5; PowerWise: N; CompType: LDO IC; Published: 1-Mar-2010; DatasheetVersion: Sep-2006; PackageVersion: revD, Apr-2005; PackageReference: TS5B; Publisher: Altium Limited; PackageDescription: TO-263, Molded, .400 x .390 x .180in, 5 Lead, .067in Pitch, Surface Mount; Supplier 1: Digi-Key; Supplier Part Number 1: LP3855ES-2.5-ND; RoHS: Y; PinCount: 5; Code_JEDEC: MO-169-AB; ComponentLink1Description: LP3855 Datasheet; ComponentLink1URL: http://www.national.com/ds/LP/LP3855.pdf; ComponentLink2Description: LP3855 Web Page; ComponentLink2URL: http://www.national.com/pf/LP/LP3855.html; ComponentLink3Description: TS5B Package Page; ComponentLink3URL: http://www.national.com/packaging/folders/ts5b.html
footprint TS5B_N (D2-PAK, 6-Leads, Body 8.6x10.2mm, Pitch 1.7mm, Lead Span 14.1mm, IPC Medium Density)
footprint TS5B_L (D2-PAK, 6-Leads, Body 8.6x10.2mm, Pitch 1.7mm, Lead Span 14.1mm, IPC High Density)
footprint TS5B_M (D2-PAK, 6-Leads, Body 8.6x10.2mm, Pitch 1.7mm, Lead Span 14.1mm, IPC Low Density)
pins: 1 ~{SD} (in), 2 IN (power), 3 GND (power), 4 OUT (power), 5 SNS (in), 6 TAB (power)

## LP3855ES-3.3
designator U?
1.5A Fast Ultra Low Dropout Linear Regulator, 5-pin TO-263; PartNumber: LP3855ES-3.3; Manufacturer: National Semiconductor; PackageTopMarking: NSUZXYTTE#*LP3855ES*-3.3; PowerWise: N; CompType: LDO IC; Published: 4-Dec-2008; DatasheetVersion: Sep-2006; PackageVersion: revD, Apr-2005; PackageReference: TS5B; Publisher: Altium Limited; PackageDescription: TO-263, Molded, .400 x .390 x .180in, 5 Lead, .067in Pitch, Surface Mount; Supplier 1: Farnell; Supplier Part Number 1: 8188084; RoHS: N; PinCount: 5; Code_JEDEC: MO-169-AB; ComponentLink1Description: LP3855 Datasheet; ComponentLink1URL: http://www.national.com/ds/LP/LP3855.pdf; ComponentLink2Description: LP3855 Web Page; ComponentLink2URL: http://www.national.com/pf/LP/LP3855.html; ComponentLink3Description: TS5B Package Page; ComponentLink3URL: http://www.national.com/packaging/folders/ts5b.html
footprint TS5B_N (D2-PAK, 6-Leads, Body 8.6x10.2mm, Pitch 1.7mm, Lead Span 14.1mm, IPC Medium Density)
footprint TS5B_L (D2-PAK, 6-Leads, Body 8.6x10.2mm, Pitch 1.7mm, Lead Span 14.1mm, IPC High Density)
footprint TS5B_M (D2-PAK, 6-Leads, Body 8.6x10.2mm, Pitch 1.7mm, Lead Span 14.1mm, IPC Low Density)
pins: 1 ~{SD} (in), 2 IN (power), 3 GND (power), 4 OUT (power), 5 SNS (in), 6 TAB (power)

## LP3855ES-3.3/NOPB
designator U?
1.5A Fast Ultra Low Dropout Linear Regulator, 5-pin TO-263, Pb-Free; PartNumber: LP3855ES-3.3/NOPB; Manufacturer: National Semiconductor; PackageTopMarking: NSUZXYTTE#*LP3855ES*-3.3; PowerWise: N; CompType: LDO IC; Published: 1-Mar-2010; DatasheetVersion: Sep-2006; PackageVersion: revD, Apr-2005; PackageReference: TS5B; Publisher: Altium Limited; PackageDescription: TO-263, Molded, .400 x .390 x .180in, 5 Lead, .067in Pitch, Surface Mount; Supplier 1: Digi-Key; Supplier Part Number 1: LP3855ES-3.3-ND; Supplier 2: Farnell; Supplier Part Number 2: 1559617; RoHS: Y; PinCount: 5; Code_JEDEC: MO-169-AB; ComponentLink1Description: LP3855 Datasheet; ComponentLink1URL: http://www.national.com/ds/LP/LP3855.pdf; ComponentLink2Description: LP3855 Web Page; ComponentLink2URL: http://www.national.com/pf/LP/LP3855.html; ComponentLink3Description: TS5B Package Page; ComponentLink3URL: http://www.national.com/packaging/folders/ts5b.html
footprint TS5B_N (D2-PAK, 6-Leads, Body 8.6x10.2mm, Pitch 1.7mm, Lead Span 14.1mm, IPC Medium Density)
footprint TS5B_L (D2-PAK, 6-Leads, Body 8.6x10.2mm, Pitch 1.7mm, Lead Span 14.1mm, IPC High Density)
footprint TS5B_M (D2-PAK, 6-Leads, Body 8.6x10.2mm, Pitch 1.7mm, Lead Span 14.1mm, IPC Low Density)
pins: 1 ~{SD} (in), 2 IN (power), 3 GND (power), 4 OUT (power), 5 SNS (in), 6 TAB (power)

## LP3855ES-5.0
designator U?
1.5A Fast Ultra Low Dropout Linear Regulator, 5-pin TO-263; PartNumber: LP3855ES-5.0; Manufacturer: National Semiconductor; PackageTopMarking: NSUZXYTTE#*LP3855ES*-5.0; PowerWise: N; CompType: LDO IC; Published: 4-Dec-2008; DatasheetVersion: Sep-2006; PackageVersion: revD, Apr-2005; PackageReference: TS5B; Publisher: Altium Limited; PackageDescription: TO-263, Molded, .400 x .390 x .180in, 5 Lead, .067in Pitch, Surface Mount; Supplier 1: Farnell; Supplier Part Number 1: 8188092; RoHS: N; PinCount: 5; Code_JEDEC: MO-169-AB; ComponentLink1Description: LP3855 Datasheet; ComponentLink1URL: http://www.national.com/ds/LP/LP3855.pdf; ComponentLink2Description: LP3855 Web Page; ComponentLink2URL: http://www.national.com/pf/LP/LP3855.html; ComponentLink3Description: TS5B Package Page; ComponentLink3URL: http://www.national.com/packaging/folders/ts5b.html
footprint TS5B_N (D2-PAK, 6-Leads, Body 8.6x10.2mm, Pitch 1.7mm, Lead Span 14.1mm, IPC Medium Density)
footprint TS5B_L (D2-PAK, 6-Leads, Body 8.6x10.2mm, Pitch 1.7mm, Lead Span 14.1mm, IPC High Density)
footprint TS5B_M (D2-PAK, 6-Leads, Body 8.6x10.2mm, Pitch 1.7mm, Lead Span 14.1mm, IPC Low Density)
pins: 1 ~{SD} (in), 2 IN (power), 3 GND (power), 4 OUT (power), 5 SNS (in), 6 TAB (power)

## LP3855ES-5.0/NOPB
designator U?
1.5A Fast Ultra Low Dropout Linear Regulator, 5-pin TO-263, Pb-Free; PartNumber: LP3855ES-5.0/NOPB; Manufacturer: National Semiconductor; PackageTopMarking: NSUZXYTTE#*LP3855ES*-5.0; PowerWise: N; CompType: LDO IC; Published: 1-Mar-2010; DatasheetVersion: Sep-2006; PackageVersion: revD, Apr-2005; PackageReference: TS5B; Publisher: Altium Limited; PackageDescription: TO-263, Molded, .400 x .390 x .180in, 5 Lead, .067in Pitch, Surface Mount; Supplier 1: Digi-Key; Supplier Part Number 1: LP3855ES-5.0-ND; RoHS: Y; PinCount: 5; Code_JEDEC: MO-169-AB; ComponentLink1Description: LP3855 Datasheet; ComponentLink1URL: http://www.national.com/ds/LP/LP3855.pdf; ComponentLink2Description: LP3855 Web Page; ComponentLink2URL: http://www.national.com/pf/LP/LP3855.html; ComponentLink3Description: TS5B Package Page; ComponentLink3URL: http://www.national.com/packaging/folders/ts5b.html
footprint TS5B_N (D2-PAK, 6-Leads, Body 8.6x10.2mm, Pitch 1.7mm, Lead Span 14.1mm, IPC Medium Density)
footprint TS5B_L (D2-PAK, 6-Leads, Body 8.6x10.2mm, Pitch 1.7mm, Lead Span 14.1mm, IPC High Density)
footprint TS5B_M (D2-PAK, 6-Leads, Body 8.6x10.2mm, Pitch 1.7mm, Lead Span 14.1mm, IPC Low Density)
pins: 1 ~{SD} (in), 2 IN (power), 3 GND (power), 4 OUT (power), 5 SNS (in), 6 TAB (power)